# Altium footprint library 130020900#NIP_PD_电路板印制板.PcbLib: 105 footprints (part 4 of 7)
Each footprint in its own frame and in the unit in brackets; x right, y up, seen from the top. Pads: shape width x height; smd on the part's side, far side on the other; paste and mask are expansions set on the pad; w line width, h text height; cw(c..) or ccw(c..) is an arc to the next point about the centre after c.
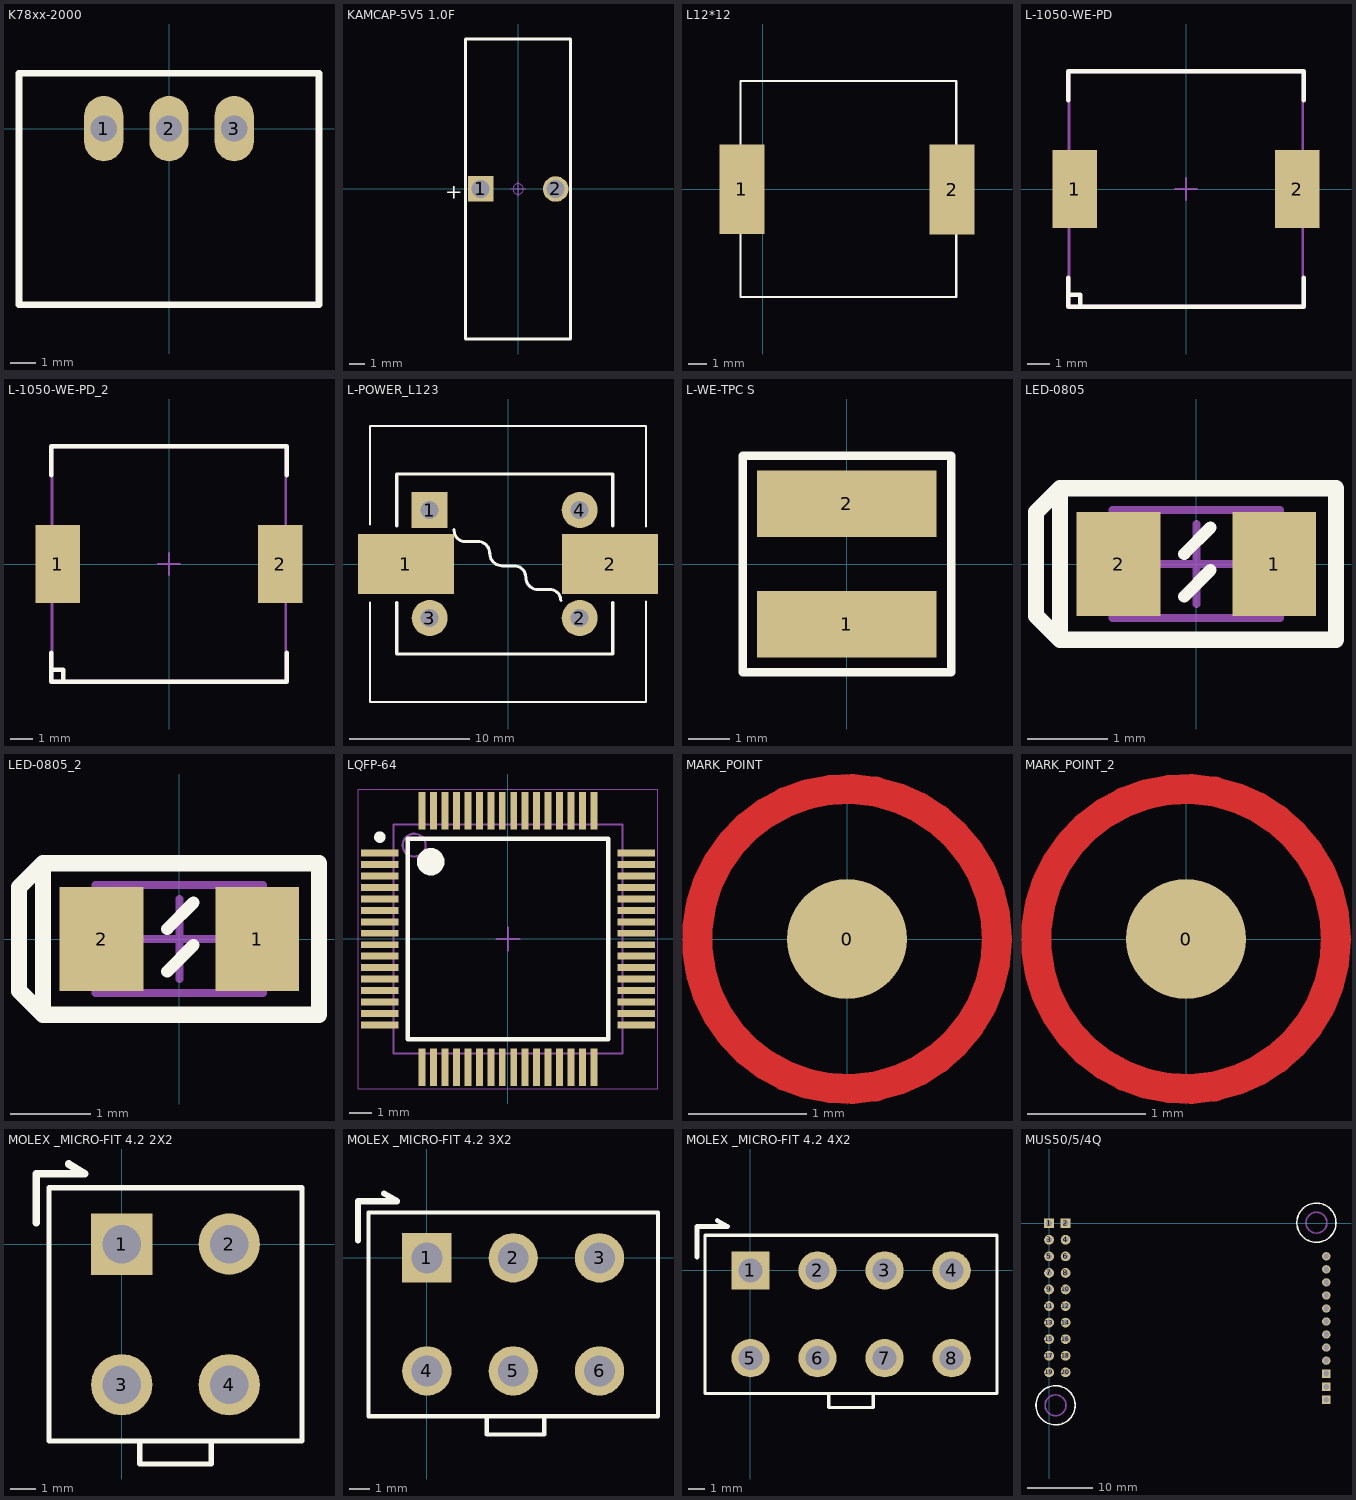
[diagram p3: the footprints below, top view; thin cyan lines are the x and y axes]

## K78xx-2000 [mil] "宽电压输入，非隔离稳压单路输出"
height 62.99
pads (3):
  oval 60x100 hole 40: 1(-100,0) 2(0,0) 3(100,0)
Top Overlay:
  lines w10: -230,-270 -230,85 230,85 230,-270 -230,-270

## KAMCAP-5V5 1.0F [mm]
pads (2):
  rect 1.7x1.7 hole 1.2: 1(-2.5,0)
  round 1.7 hole 1.2: 2(2.5,0)
Top Overlay:
  lines w0.2: -3.5,-10 3.5,-10 3.5,10 -3.5,10 -3.5,-10
  text "+" at -4.863,-0.66 h1.02
Mechanical 15:
  circle w0.1: c2.506,0.001 r0.625
  lines w0.1: -3.5,-10 3.5,-10 3.5,10 -3.5,10 -3.5,-10 ; -3.12,-0.626 -3.12,0.624 -1.87,0.624 -1.87,-0.626 -3.12,-0.626
Mechanical 16:
  circle w0.05: c0,0 r0.35
  lines w0.05: -0.5,0 0.5,0 ; 0,-0.5 0,0.5 ; -3.5,-10 3.5,-10 3.5,10 -3.5,10 -3.5,-10

## L12*12 [mm]
pads (2):
  rect 2.5x5 smd: 1(-1.168,0) 2(10.516,-0.025)
Top Overlay:
  lines w0.127: -1.245,-5.994 10.744,-5.994 10.744,6.02 -1.245,6.02 -1.245,-5.994
3D body: height 10, standoff 0, extent -1.245,-5.994 10.744,6.02

## L-1050-WE-PD [mm] "Molded Inductor, 2-Leads, Body 12x12mm, IPC Medium Density"
height 2.4
pads (2):
  rect 2x3.5 smd: 1(-5,0) 2(5,0)
Top Overlay:
  lines w0.203: -5.3,-4 -5.3,-5.3 5.3,-5.3 5.3,-4 ; -5.3,4 -5.3,5.3 5.3,5.3 5.3,4 ; -5.232,-4.764 -4.75,-4.764 -4.75,-5.3
Mechanical 13:
  lines w0.1: -5.25,-5.25 5.25,-5.25 5.25,5.25 -5.25,5.25 -5.25,-5.25
Mechanical 15:
  lines w0.05: -5.3,-5.3 5.3,-5.3 5.3,5.3 -5.3,5.3 -5.3,-5.3
  lines w0.1: -0.5,0 0.5,0 ; 0,-0.5 0,0.5
3D body: height 2.4, standoff 0, extent -5.25,-5.25 5.25,5.25

## L-1050-WE-PD_2 [mm]
pads (2):
  rect 2x3.5 smd: 1(-5,0) 2(5,0)
Top Overlay:
  lines w0.203: -5.3,-4 -5.3,-5.3 5.3,-5.3 5.3,-4 ; -5.3,4 -5.3,5.3 5.3,5.3 5.3,4 ; -5.232,-4.764 -4.75,-4.764 -4.75,-5.3
Mechanical 13:
  lines w0.1: -5.25,-5.25 -5.25,5.25 5.25,5.25 5.25,-5.25 -5.25,-5.25
Mechanical 15:
  lines w0.05: -5.3,-5.3 -5.3,5.3 5.3,5.3 5.3,-5.3 -5.3,-5.3
  lines w0.1: -0.5,0 0.5,0 ; 0,-0.5 0,0.5
3D body: height 2.4, standoff 0, extent -5.25,-5.25 5.25,5.25

## L-POWER_L123 [mm] "SANYO,SVP SERIES ELECTROLYTIC CAPACITORS"
height 2.62
pads (6):
  rect 8x5 smd: 1(-8.5,0) 2(8.5,0)
  rect 3x3 hole 1.5: 1(-6.522,4.5)
  round 3 hole 1.5: 2(5.978,-4.5) 3(-6.522,-4.5) 4(5.978,4.5)
Top Overlay:
  lines w0.15: -11.5,-3.189 -11.5,-11.5 11.5,-11.5 11.5,-3.12 ; -11.5,3.265 -11.5,11.5 11.5,11.5 11.5,3.133 ; 8.728,-3.201 8.729,-3.201
  lines w0.254: -9.272,-3.212 -9.272,-7.5 8.728,-7.5 8.728,-3.201 ; -9.272,3.153 -9.272,7.5 8.728,7.5 8.728,3.153 ; -4.486,2.86 -4.486,2.78 ccw(c-3.586,2.78) -3.586,1.88 -2.516,1.88 cw(c-2.516,0.886) -1.522,0.886 ; 4.404,-3.06 ccw(c3.464,-3.06) 3.464,-2.12 2.474,-2.12 cw(c2.474,-1.13) 1.483,-1.13 1.483,-1.115 ccw(c0.518,-1.115) 0.518,-0.15 -0.486,-0.15 cw(c-0.486,0.886) -1.522,0.886 ; -1.522,0.886 -1.522,0.886

## L-WE-TPC S [mm]
pads (2):
  rect 4.3x1.6 smd: 1(0,-1.45) 2(0,1.45)
Top Overlay:
  lines w0.203: -2.495,-2.6 2.505,-2.6 2.505,2.6 -2.495,2.6 -2.495,-2.6

## LED-0805 [mm] "Molded Diode, 2-Leads, Body 1.20x0.80mm, IPC Medium Density"
height 0.7
pads (2):
  rect 1.05x1.3 smd: 1(0.975,0) 2(-0.975,0)
Top Overlay:
  lines w0.152: -0.152,-0.406 0.178,-0.076 ; -0.152,0.127 0.178,0.457
  lines w0.203: -1.71,-0.95 -2.01,-0.65 -2.01,0.65 -1.71,0.95 ; -1.71,-0.95 -1.71,0.95 ; -1.71,-0.95 1.75,-0.95 1.75,0.95 -1.71,0.95
Mechanical 13:
  lines w0.1: -1.05,-0.675 -1.05,0.675 1.05,0.675 1.05,-0.675 -1.05,-0.675
Mechanical 15:
  lines w0.1: -0.5,0 0.5,0 ; 0,-0.5 0,0.5
3D body: height 0.5, standoff 0, extent -0.7,-0.675 0.7,0.675
3D body: height 0.5, standoff 0, extent -1.05,-0.675 -0.7,0.675
3D body: height 0.5, standoff 0, extent 0.7,-0.675 1.05,0.675

## LED-0805_2 [mm]
pads (2):
  rect 1.05x1.3 smd: 1(0.975,0) 2(-0.975,0)
Top Overlay:
  lines w0.152: -0.152,-0.406 0.178,-0.076 ; -0.152,0.127 0.178,0.457
  lines w0.203: -1.71,-0.95 1.75,-0.95 1.75,0.95 -1.71,0.95 ; -1.71,-0.95 -1.71,0.95 ; -1.71,-0.95 -2.01,-0.65 -2.01,0.65 -1.71,0.95
Mechanical 13:
  lines w0.1: -1.05,-0.675 1.05,-0.675 1.05,0.675 -1.05,0.675 -1.05,-0.675
Mechanical 15:
  lines w0.1: -0.5,0 0.5,0 ; 0,-0.5 0,0.5
3D body: height 0.5, standoff 0, extent 0.7,-0.675 1.05,0.675
3D body: height 0.5, standoff 0, extent -1.05,-0.675 -0.7,0.675
3D body: height 0.5, standoff 0, extent -0.7,-0.675 0.7,0.675

## LQFP-64 [mm] "LQFP, 64-Leads, Body 10.00x10.00mm, Pitch 0.50mm, IPC Medium Density"
height 1.6
pads (64):
  rect 1.65x0.3 smd: 1(-5.6,3.75) 2(-5.6,3.25) 3(-5.6,2.75) 4(-5.6,2.25) 5(-5.6,1.75) 6(-5.6,1.25) 7(-5.6,0.75) 8(-5.6,0.25) 9(-5.6,-0.25) 10(-5.6,-0.75) 11(-5.6,-1.25) 12(-5.6,-1.75) 13(-5.6,-2.25) 14(-5.6,-2.75) 15(-5.6,-3.25) 16(-5.6,-3.75) 33(5.6,-3.75) 34(5.6,-3.25) 35(5.6,-2.75) 36(5.6,-2.25) 37(5.6,-1.75) 38(5.6,-1.25) 39(5.6,-0.75) 40(5.6,-0.25) 41(5.6,0.25) 42(5.6,0.75) 43(5.6,1.25) 44(5.6,1.75) 45(5.6,2.25) 46(5.6,2.75) 47(5.6,3.25) 48(5.6,3.75)
  rect 0.3x1.65 smd: 17(-3.75,-5.6) 18(-3.25,-5.6) 19(-2.75,-5.6) 20(-2.25,-5.6) 21(-1.75,-5.6) 22(-1.25,-5.6) 23(-0.75,-5.6) 24(-0.25,-5.6) 25(0.25,-5.6) 26(0.75,-5.6) 27(1.25,-5.6) 28(1.75,-5.6) 29(2.25,-5.6) 30(2.75,-5.6) 31(3.25,-5.6) 32(3.75,-5.6) 49(3.75,5.6) 50(3.25,5.6) 51(2.75,5.6) 52(2.25,5.6) 53(1.75,5.6) 54(1.25,5.6) 55(0.75,5.6) 56(0.25,5.6) 57(-0.25,5.6) 58(-0.75,5.6) 59(-1.25,5.6) 60(-1.75,5.6) 61(-2.25,5.6) 62(-2.75,5.6) 63(-3.25,5.6) 64(-3.75,5.6)
Top Overlay:
  circle w0.25: c-5.6,4.45 r0.125
  circle w0.6: c-3.375,3.375 r0.3
  lines w0.203: -4.375,-4.375 -4.375,4.375 4.375,4.375 4.375,-4.375 -4.375,-4.375
Mechanical 13:
  circle w0.1: c-4.1,4.1 r0.5
  lines w0.1: -5,-5 -5,5 5,5 5,-5 -5,-5
Mechanical 15:
  lines w0.05: -6.553,-6.553 -6.553,6.553 6.553,6.553 6.553,-6.553 -6.553,-6.553
  lines w0.1: -0.5,0 0.5,0 ; 0,-0.5 0,0.5
3D body: height 1.6, standoff 0.05, extent -5,-5 5,5

## MARK_POINT [mil]
height 236.22
pads (1):
  round 40 smd: 0(0,0)
Top Layer:
  circle w10: c0,0 r50
Top Solder:
  circle w20: c0,0 r30

## MARK_POINT_2 [mil]
pads (1):
  round 40 smd: 0(0,0)
Top Layer:
  circle w10: c0,0 r50
Top Solder:
  circle w20: c0,0 r30

## MOLEX _MICRO-FIT 4.2 2X2 [mm]
height 8
pads (4):
  rect 2.4x2.4 hole 1.5: 1(0,0)
  round 2.4 hole 1.5: 2(4.2,0) 3(0,-5.5) 4(4.2,-5.5)
Top Overlay:
  lines w0.203: 0.703,-7.714 0.703,-8.603 3.497,-8.603 3.497,-7.714 ; -2.844,-7.703 7.044,-7.703 7.044,2.203 -2.844,2.203 -2.844,-7.703
  lines w0.3: -3.352,0.847 -3.352,2.752 -1.447,2.752 -2.082,3.133

## MOLEX _MICRO-FIT 4.2 3X2 [mm]
height 8
pads (6):
  rect 2.4x2.4 hole 1.5: 1(0,0)
  round 2.4 hole 1.5: 2(4.2,0) 3(8.4,0) 4(0,-5.5) 5(4.2,-5.5) 6(8.4,-5.5)
Top Overlay:
  lines w0.203: 2.912,-7.703 2.912,-8.592 5.706,-8.592 5.706,-7.703 ; -2.844,-7.703 -2.844,2.203 11.244,2.203 11.244,-7.703 -2.844,-7.703
  lines w0.3: -3.352,0.847 -3.352,2.752 -1.447,2.752 -2.082,3.133

## MOLEX _MICRO-FIT 4.2 4X2 [mm]
height 8
pads (8):
  rect 2.4x2.4 hole 1.5: 1(0,0)
  round 2.4 hole 1.5: 2(4.2,0) 3(8.4,0) 4(12.6,0) 5(0,-5.5) 6(4.2,-5.5) 7(8.4,-5.5) 8(12.6,-5.5)
Top Overlay:
  lines w0.203: 4.903,-7.703 4.903,-8.592 7.697,-8.592 7.697,-7.703 ; -2.844,-7.703 15.444,-7.703 15.444,2.203 -2.844,2.203 -2.844,-7.703
  lines w0.3: -3.352,0.847 -3.352,2.752 -1.447,2.752 -2.082,3.133

## MUS50/5/4Q [mm]
pads (32):
  rect 1.5x1.5 hole 0.9: 1(0,0) 2(2.54,0)
  round 1.5 hole 0.9: 3(0,-2.54) 4(2.54,-2.54) 5(0,-5.08) 6(2.54,-5.08) 7(0,-7.62) 8(2.54,-7.62) 9(0,-10.16) 10(2.54,-10.16) 11(0,-12.7) 12(2.54,-12.7) 13(0,-15.24) 14(2.54,-15.24) 15(0,-17.78) 16(2.54,-17.78) 17(0,-20.32) 18(2.54,-20.32) 19(0,-22.86) 20(2.54,-22.86)
  rect 1.27x1.27 hole 0.9: 21(42.506,-27.069) 22(42.506,-25.069) 23(42.506,-23.069)
  round 1.27 hole 0.9: 24(42.506,-21.069) 25(42.506,-19.069) 26(42.506,-17.069) 27(42.506,-15.069) 28(42.506,-13.069) 29(42.506,-11.069) 30(42.506,-9.069) 31(42.506,-7.069) 32(42.506,-5.069)
Top Overlay:
  circle w0.254: c1,-27.919 r3
  circle w0.254: c41,0.081 r3
Bottom Overlay:
  lines w0.254: -1.27,-1.27 1.27,-1.27 3.81,-1.27 ; 3.805,-24.119 3.805,1.23 ; 3.81,-24.13 1.27,-24.13 ; 3.81,1.27 1.27,1.27 ; 41.193,-29.199 41.193,-3.824 ; 41.236,-29.199 43.776,-29.199 43.776,-3.799 41.236,-3.799 ; 41.236,-26.659 43.776,-26.659 ; 1.27,-24.13 -1.27,-24.13 -1.27,1.27 1.27,1.27 ; 1.27,-24.13 1.27,1.27 ; 1.27,-24.13 1.27,1.27
Mechanical 1:
  circle w0.254: c1,-27.919 r1.6
  circle w0.254: c41,0.081 r1.6